# Altium integrated library Analog Devices Switches and Multiplexers Multiplexers (Muxes).IntLib: 481 symbols (part 15 of 23)
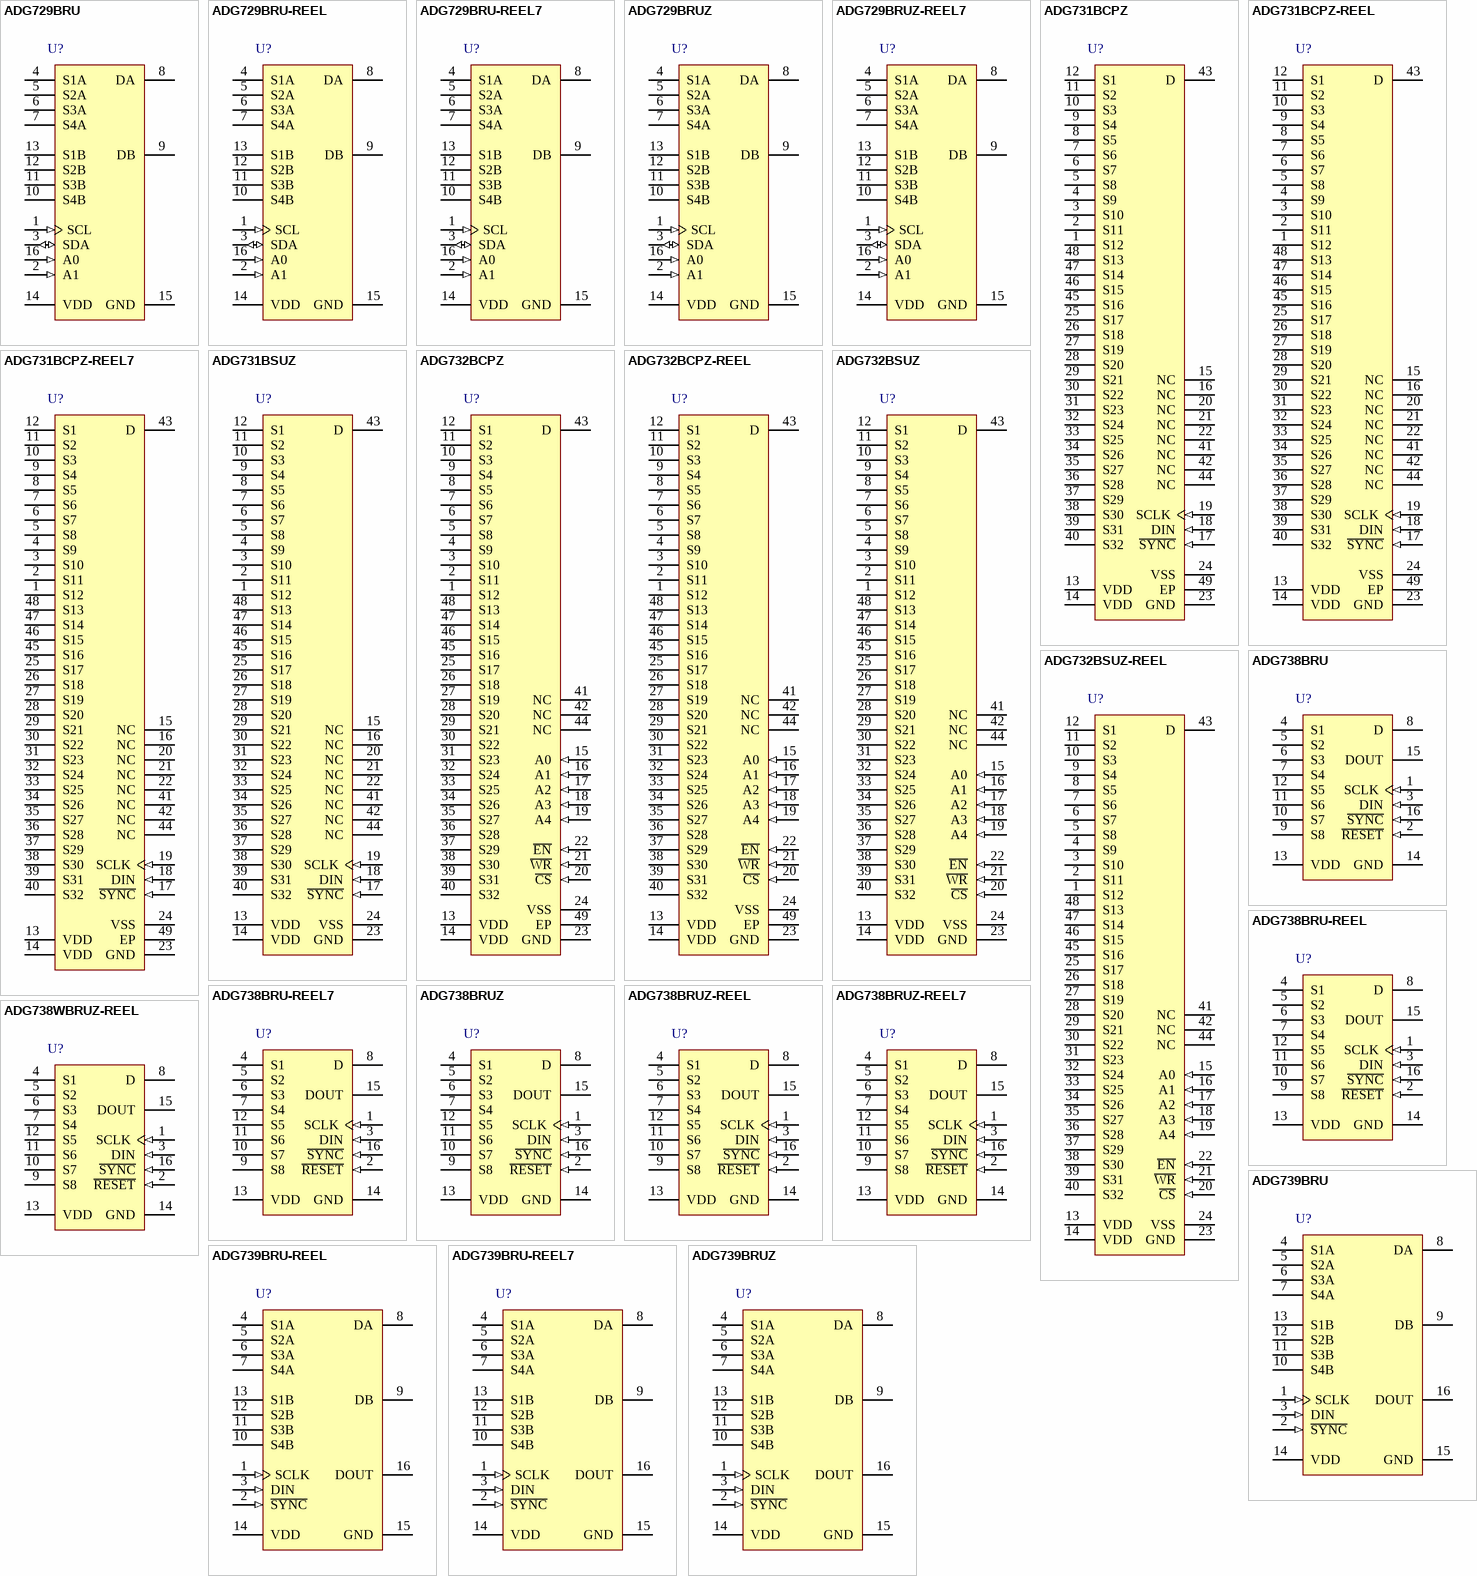
[diagram p31: symbols ADG729BRU to ADG739BRUZ]

## ADG731BCPZ
designator U?
1.8 to 5.5 V / +/-2.5 V, 4 Ohm, Serially Controlled, 32-Channel Analog Multiplexer, -40 to 85 degC, 48-pin QFN (CP-48-1), Tray; Manufacturer: Analog Devices; PartNumber: ADG731BCPZ; Bandwidth (Hz): 18M; Max Analog Signal Range: Vss to Vdd; Ron (ohms): 4; Supply V Guar Performance: Dual_(+/-2.5V), Single_(+3V), Single_(+5V); t transition (s): 42n; DatasheetVersion: Rev. A; PackageReference: CP-48-1; PackageDescription: 48-Pin Lead Frame Chip Scale Package, Body 7 x 7 mm, Pitch 0.5 mm; Supplier 1: Digi-Key; Supplier Part Number 1: ADG731BCPZ-ND; Supplier 2: Newark; Supplier Part Number 2: 59K1562; Supplier 3: Mouser; Supplier Part Number 3: 584-ADG731BCPZ; Packing: Tray; Mounting Technology: Surface Mount; Code_JEDEC: MO-220-VKKD-2; ComponentLink1Description: Manufacturer URL; ComponentLink1URL: http://www.analog.com/en/index.html; ComponentLink2Description: Datasheet; ComponentLink2URL: http://www.analog.com/static/imported-files/data_sheets/ADG725_731.pdf; ComponentLink3Description: Package Specification; ComponentLink3URL: http:/www.analog.com/static/imported-files/packages/PKG_PDF/LFCSP(CP)/CP-48/CP_48_1.pdf
footprint ADI-CP-48-1_N (QFN, 48-Leads, Body 7x7mm, Pitch 0.5mm, IPC Medium Density)
footprint ADI-CP-48-1_L (QFN, 48-Leads, Body 7x7mm, Pitch 0.5mm, IPC High Density)
footprint ADI-CP-48-1_M (QFN, 48-Leads, Body 7x7mm, Pitch 0.5mm, IPC Low Density)
pins: 1 S12 "Source. May be an input or output.", 2 S11 "Source. May be an input or output.", 3 S10 "Source. May be an input or output.", 4 S9 "Source. May be an input or output.", 5 S8 "Source. May be an input or output.", 6 S7 "Source. May be an input or output.", 7 S6 "Source. May be an input or output.", 8 S5 "Source. May be an input or output.", 9 S4 "Source. May be an input or output.", 10 S3 "Source. May be an input or output.", 11 S2 "Source. May be an input or output.", 12 S1 "Source. May be an input or output.", 13 VDD (power) "Power Supply Input. These parts can be operated from a single supply of 1.8 V to 5.5 V and a dual supply of +/-2.5 V.", 14 VDD (power) "Power Supply Input. These parts can be operated from a single supply of 1.8 V to 5.5 V and a dual supply of +/-2.5 V.", 15 NC "NO CONNECT", 16 NC "NO CONNECT", 17 ~{SYNC} (in) "Active Low Control Input. This is the frame synchronization signal for the input data. When S\Y\N\C\ goes low, it powers on the SCLK and DIN buffers and the input Shift Register is enabled. An 8-bit counter is also enabled. (See Datasheet)", 18 DIN (in) "Serial Data Input. Data is clocked into the 8-bit Input Register MSB first on the falling edge of the serial clock input.", 19 SCLK (in) "Serial Clock Input. Data is clocked into the Input Shift Register on the falling edge of the serial clock input. These devices can accommodate serial input rates of up to 30 MHz.", 20 NC "NO CONNECT", 21 NC "NO CONNECT", 22 NC "NO CONNECT", 23 GND (power) "Ground Reference", 24 VSS (power) "Most Negative Power Supply in a Dual-Supply Application. In single-supply applications, connect to GND.", 25 S17 "Source. May be an input or output.", 26 S18 "Source. May be an input or output.", 27 S19 "Source. May be an input or output.", 28 S20 "Source. May be an input or output.", 29 S21 "Source. May be an input or output.", 30 S22 "Source. May be an input or output.", 31 S23 "Source. May be an input or output.", 32 S24 "Source. May be an input or output.", 33 S25 "Source. May be an input or output.", 34 S26 "Source. May be an input or output.", 35 S27 "Source. May be an input or output.", 36 S28 "Source. May be an input or output.", 37 S29 "Source. May be an input or output.", 38 S30 "Source. May be an input or output.", 39 S31 "Source. May be an input or output.", 40 S32 "Source. May be an input or output.", 41 NC "NO CONNECT", 42 NC "NO CONNECT", 43 D "Drain. May be an input or output.", 44 NC "NO CONNECT", 45 S16 "Source. May be an input or output.", 46 S15 "Source. May be an input or output.", 47 S14 "Source. May be an input or output.", 48 S13 "Source. May be an input or output.", 49 EP

## ADG731BCPZ-REEL
designator U?
1.8 to 5.5 V / +/-2.5 V, 4 Ohm, Serially Controlled, 32-Channel Analog Multiplexer, -40 to 85 degC, 48-pin QFN (CP-48-1), Reel; Manufacturer: Analog Devices; PartNumber: ADG731BCPZ-REEL; Bandwidth (Hz): 18M; Max Analog Signal Range: Vss to Vdd; Ron (ohms): 4; Supply V Guar Performance: Dual_(+/-2.5V), Single_(+3V), Single_(+5V); t transition (s): 42n; DatasheetVersion: Rev. A; PackageReference: CP-48-1; PackageDescription: 48-Pin Lead Frame Chip Scale Package, Body 7 x 7 mm, Pitch 0.5 mm; Supplier 1: Digi-Key; Supplier Part Number 1: ADG731BCPZ-REEL-ND; Supplier 2: Mouser; Supplier Part Number 2: 584-ADG731BCPZ-R; Packing: Reel; Mounting Technology: Surface Mount; Code_JEDEC: MO-220-VKKD-2; ComponentLink1Description: Manufacturer URL; ComponentLink1URL: http://www.analog.com/en/index.html; ComponentLink2Description: Datasheet; ComponentLink2URL: http://www.analog.com/static/imported-files/data_sheets/ADG725_731.pdf; ComponentLink3Description: Package Specification; ComponentLink3URL: http:/www.analog.com/static/imported-files/packages/PKG_PDF/LFCSP(CP)/CP-48/CP_48_1.pdf
footprint ADI-CP-48-1_N (QFN, 48-Leads, Body 7x7mm, Pitch 0.5mm, IPC Medium Density)
footprint ADI-CP-48-1_L (QFN, 48-Leads, Body 7x7mm, Pitch 0.5mm, IPC High Density)
footprint ADI-CP-48-1_M (QFN, 48-Leads, Body 7x7mm, Pitch 0.5mm, IPC Low Density)
pins: 1 S12 "Source. May be an input or output.", 2 S11 "Source. May be an input or output.", 3 S10 "Source. May be an input or output.", 4 S9 "Source. May be an input or output.", 5 S8 "Source. May be an input or output.", 6 S7 "Source. May be an input or output.", 7 S6 "Source. May be an input or output.", 8 S5 "Source. May be an input or output.", 9 S4 "Source. May be an input or output.", 10 S3 "Source. May be an input or output.", 11 S2 "Source. May be an input or output.", 12 S1 "Source. May be an input or output.", 13 VDD (power) "Power Supply Input. These parts can be operated from a single supply of 1.8 V to 5.5 V and a dual supply of +/-2.5 V.", 14 VDD (power) "Power Supply Input. These parts can be operated from a single supply of 1.8 V to 5.5 V and a dual supply of +/-2.5 V.", 15 NC "NO CONNECT", 16 NC "NO CONNECT", 17 ~{SYNC} (in) "Active Low Control Input. This is the frame synchronization signal for the input data. When S\Y\N\C\ goes low, it powers on the SCLK and DIN buffers and the input Shift Register is enabled. An 8-bit counter is also enabled. (See Datasheet)", 18 DIN (in) "Serial Data Input. Data is clocked into the 8-bit Input Register MSB first on the falling edge of the serial clock input.", 19 SCLK (in) "Serial Clock Input. Data is clocked into the Input Shift Register on the falling edge of the serial clock input. These devices can accommodate serial input rates of up to 30 MHz.", 20 NC "NO CONNECT", 21 NC "NO CONNECT", 22 NC "NO CONNECT", 23 GND (power) "Ground Reference", 24 VSS (power) "Most Negative Power Supply in a Dual-Supply Application. In single-supply applications, connect to GND.", 25 S17 "Source. May be an input or output.", 26 S18 "Source. May be an input or output.", 27 S19 "Source. May be an input or output.", 28 S20 "Source. May be an input or output.", 29 S21 "Source. May be an input or output.", 30 S22 "Source. May be an input or output.", 31 S23 "Source. May be an input or output.", 32 S24 "Source. May be an input or output.", 33 S25 "Source. May be an input or output.", 34 S26 "Source. May be an input or output.", 35 S27 "Source. May be an input or output.", 36 S28 "Source. May be an input or output.", 37 S29 "Source. May be an input or output.", 38 S30 "Source. May be an input or output.", 39 S31 "Source. May be an input or output.", 40 S32 "Source. May be an input or output.", 41 NC "NO CONNECT", 42 NC "NO CONNECT", 43 D "Drain. May be an input or output.", 44 NC "NO CONNECT", 45 S16 "Source. May be an input or output.", 46 S15 "Source. May be an input or output.", 47 S14 "Source. May be an input or output.", 48 S13 "Source. May be an input or output.", 49 EP

## ADG731BCPZ-REEL7
designator U?
1.8 to 5.5 V / +/-2.5 V, 4 Ohm, Serially Controlled, 32-Channel Analog Multiplexer, -40 to 85 degC, 48-pin QFN (CP-48-1), Reel; Manufacturer: Analog Devices; PartNumber: ADG731BCPZ-REEL7; Bandwidth (Hz): 18M; Max Analog Signal Range: Vss to Vdd; Ron (ohms): 4; Supply V Guar Performance: Dual_(+/-2.5V), Single_(+3V), Single_(+5V); t transition (s): 42n; DatasheetVersion: Rev. A; PackageReference: CP-48-1; PackageDescription: 48-Pin Lead Frame Chip Scale Package, Body 7 x 7 mm, Pitch 0.5 mm; Supplier 1: Digi-Key; Supplier Part Number 1: ADG731BCPZ-REEL7-ND; Supplier 2: Mouser; Supplier Part Number 2: 584-ADG731BCPZ-R7; Packing: Reel; Mounting Technology: Surface Mount; Code_JEDEC: MO-220-VKKD-2; ComponentLink1Description: Manufacturer URL; ComponentLink1URL: http://www.analog.com/en/index.html; ComponentLink2Description: Datasheet; ComponentLink2URL: http://www.analog.com/static/imported-files/data_sheets/ADG725_731.pdf; ComponentLink3Description: Package Specification; ComponentLink3URL: http:/www.analog.com/static/imported-files/packages/PKG_PDF/LFCSP(CP)/CP-48/CP_48_1.pdf
footprint ADI-CP-48-1_N (QFN, 48-Leads, Body 7x7mm, Pitch 0.5mm, IPC Medium Density)
footprint ADI-CP-48-1_L (QFN, 48-Leads, Body 7x7mm, Pitch 0.5mm, IPC High Density)
footprint ADI-CP-48-1_M (QFN, 48-Leads, Body 7x7mm, Pitch 0.5mm, IPC Low Density)
pins: 1 S12 "Source. May be an input or output.", 2 S11 "Source. May be an input or output.", 3 S10 "Source. May be an input or output.", 4 S9 "Source. May be an input or output.", 5 S8 "Source. May be an input or output.", 6 S7 "Source. May be an input or output.", 7 S6 "Source. May be an input or output.", 8 S5 "Source. May be an input or output.", 9 S4 "Source. May be an input or output.", 10 S3 "Source. May be an input or output.", 11 S2 "Source. May be an input or output.", 12 S1 "Source. May be an input or output.", 13 VDD (power) "Power Supply Input. These parts can be operated from a single supply of 1.8 V to 5.5 V and a dual supply of +/-2.5 V.", 14 VDD (power) "Power Supply Input. These parts can be operated from a single supply of 1.8 V to 5.5 V and a dual supply of +/-2.5 V.", 15 NC "NO CONNECT", 16 NC "NO CONNECT", 17 ~{SYNC} (in) "Active Low Control Input. This is the frame synchronization signal for the input data. When S\Y\N\C\ goes low, it powers on the SCLK and DIN buffers and the input Shift Register is enabled. An 8-bit counter is also enabled. (See Datasheet)", 18 DIN (in) "Serial Data Input. Data is clocked into the 8-bit Input Register MSB first on the falling edge of the serial clock input.", 19 SCLK (in) "Serial Clock Input. Data is clocked into the Input Shift Register on the falling edge of the serial clock input. These devices can accommodate serial input rates of up to 30 MHz.", 20 NC "NO CONNECT", 21 NC "NO CONNECT", 22 NC "NO CONNECT", 23 GND (power) "Ground Reference", 24 VSS (power) "Most Negative Power Supply in a Dual-Supply Application. In single-supply applications, connect to GND.", 25 S17 "Source. May be an input or output.", 26 S18 "Source. May be an input or output.", 27 S19 "Source. May be an input or output.", 28 S20 "Source. May be an input or output.", 29 S21 "Source. May be an input or output.", 30 S22 "Source. May be an input or output.", 31 S23 "Source. May be an input or output.", 32 S24 "Source. May be an input or output.", 33 S25 "Source. May be an input or output.", 34 S26 "Source. May be an input or output.", 35 S27 "Source. May be an input or output.", 36 S28 "Source. May be an input or output.", 37 S29 "Source. May be an input or output.", 38 S30 "Source. May be an input or output.", 39 S31 "Source. May be an input or output.", 40 S32 "Source. May be an input or output.", 41 NC "NO CONNECT", 42 NC "NO CONNECT", 43 D "Drain. May be an input or output.", 44 NC "NO CONNECT", 45 S16 "Source. May be an input or output.", 46 S15 "Source. May be an input or output.", 47 S14 "Source. May be an input or output.", 48 S13 "Source. May be an input or output.", 49 EP

## ADG731BSUZ
designator U?
1.8 to 5.5 V / +/-2.5 V, 4 Ohm, Serially Controlled, 32-Channel Analog Multiplexer, -40 to 85 degC, 48-pin QFP (SU-48), Tray; Manufacturer: Analog Devices; PartNumber: ADG731BSUZ; Bandwidth (Hz): 18M; Max Analog Signal Range: Vss to Vdd; Ron (ohms): 4; Supply V Guar Performance: Dual_(+/-2.5V), Single_(+3V), Single_(+5V); t transition (s): 42n; DatasheetVersion: Rev. A; PackageReference: SU-48; PackageDescription: 48-Pin Thin Plastic Quad Flat Package, Body 7 x 7 mm, Pitch 0.5 mm; Supplier 1: Digi-Key; Supplier Part Number 1: ADG731BSUZ-ND; Supplier 2: Farnell; Supplier Part Number 2: 2377069; Supplier 3: Newark; Supplier Part Number 3: 59K1565; Supplier 4: Mouser; Supplier Part Number 4: 584-ADG731BSUZ; Packing: Tray; Mounting Technology: Surface Mount; Code_JEDEC: MS-026ABC; ComponentLink1Description: Manufacturer URL; ComponentLink1URL: http://www.analog.com/en/index.html; ComponentLink2Description: Datasheet; ComponentLink2URL: http://www.analog.com/static/imported-files/data_sheets/ADG725_731.pdf; ComponentLink3Description: Package Specification; ComponentLink3URL: http://www.analog.com/static/imported-files/packages/470644706845302410119987SU48_7x7.pdf
footprint ADI-SU-48_N (QFP, 48-Leads, Body 7x7mm, Pitch 0.5mm, IPC Medium Density)
footprint ADI-SU-48_L (QFP, 48-Leads, Body 7x7mm, Pitch 0.5mm, IPC High Density)
footprint ADI-SU-48_M (QFP, 48-Leads, Body 7x7mm, Pitch 0.5mm, IPC Low Density)
pins: 1 S12 "Source Terminal. May be an input or output.", 2 S11 "Source Terminal. May be an input or output.", 3 S10 "Source Terminal. May be an input or output.", 4 S9 "Source Terminal. May be an input or output.", 5 S8 "Source Terminal. May be an input or output.", 6 S7 "Source Terminal. May be an input or output.", 7 S6 "Source Terminal. May be an input or output.", 8 S5 "Source Terminal. May be an input or output.", 9 S4 "Source Terminal. May be an input or output.", 10 S3 "Source Terminal. May be an input or output.", 11 S2 "Source Terminal. May be an input or output.", 12 S1 "Source Terminal. May be an input or output.", 13 VDD (power) "Power Supply Input. These parts can be operated from a single supply of 1.8 V to 5.5 V and a dual supply of +/-2.5 V.", 14 VDD (power) "Power Supply Input. These parts can be operated from a single supply of 1.8 V to 5.5 V and a dual supply of +/-2.5 V.", 15 NC "No connect", 16 NC "No connect", 17 ~{SYNC} (in) "Active Low Control Input. This is the frame synchronization signal for the input data. When SYNC goes low, it powers on the SCLK and DIN buffers and the input Shift Register is enabled. An 8-bit counter is also enabled. Data (See Datasheet)", 18 DIN (in) "Serial Data Input. Data is clocked into the 8-bit Input Register MSB first on the falling edge of the serial clock input.", 19 SCLK (in) "Serial Clock Input. Data is clocked into the Input Shift Register on the falling edge of the serial clock input. These devices can accommodate serial input rates of up to 30 MHz.", 20 NC "No connect", 21 NC "No connect", 22 NC "No connect", 23 GND (power) "Ground Reference", 24 VSS (power) "Most Negative Power Supply in a Dual-Supply Application. In single-supply applications, connect to GND.", 25 S17 "Source Terminal. May be an input or output.", 26 S18 "Source Terminal. May be an input or output.", 27 S19 "Source Terminal. May be an input or output.", 28 S20 "Source Terminal. May be an input or output.", 29 S21 "Source Terminal. May be an input or output.", 30 S22 "Source Terminal. May be an input or output.", 31 S23 "Source Terminal. May be an input or output.", 32 S24 "Source Terminal. May be an input or output.", 33 S25 "Source Terminal. May be an input or output.", 34 S26 "Source Terminal. May be an input or output.", 35 S27 "Source Terminal. May be an input or output.", 36 S28 "Source Terminal. May be an input or output.", 37 S29 "Source Terminal. May be an input or output.", 38 S30 "Source Terminal. May be an input or output.", 39 S31 "Source Terminal. May be an input or output.", 40 S32 "Source Terminal. May be an input or output.", 41 NC "No connect", 42 NC "No connect", 43 D "Drain Terminal. May be an input or output.", 44 NC "No connect", 45 S16 "Source Terminal. May be an input or output.", 46 S15 "Source Terminal. May be an input or output.", 47 S14 "Source Terminal. May be an input or output.", 48 S13 "Source Terminal. May be an input or output."

## ADG732BCPZ
designator U?
1.8 to 5.5 V / +/-2.5 V, 4 Ohm, 32-Channel Analog Multiplexer, -40 to 85 degC, 48-pin QFN (CP-48-1), Tray; Manufacturer: Analog Devices; PartNumber: ADG732BCPZ; Bandwidth (Hz): 18M; Max Analog Signal Range: Vss to Vdd; Ron (ohms): 4; Supply V Guar Performance: Dual_(+/-2.5V), Single_(+3V), Single_(+5V); t transition (s): 23n; DatasheetVersion: Rev. 0; PackageReference: CP-48-1; PackageDescription: 48-Pin Lead Frame Chip Scale Package, Body 7 x 7 mm, Pitch 0.5 mm; Supplier 1: Digi-Key; Supplier Part Number 1: ADG732BCPZ-ND; Supplier 2: Newark; Supplier Part Number 2: 12M7830; Supplier 3: Mouser; Supplier Part Number 3: 584-ADG732BCPZ; Packing: Tray; Mounting Technology: Surface Mount; Code_JEDEC: MO-220-VKKD-2; ComponentLink1Description: Manufacturer URL; ComponentLink1URL: http://www.analog.com/en/index.html; ComponentLink2Description: Datasheet; ComponentLink2URL: http://www.analog.com/static/imported-files/data_sheets/ADG726_732.pdf; ComponentLink3Description: Package Specification; ComponentLink3URL: http:/www.analog.com/static/imported-files/packages/PKG_PDF/LFCSP(CP)/CP-48/CP_48_1.pdf
footprint ADI-CP-48-1_N (QFN, 48-Leads, Body 7x7mm, Pitch 0.5mm, IPC Medium Density)
footprint ADI-CP-48-1_L (QFN, 48-Leads, Body 7x7mm, Pitch 0.5mm, IPC High Density)
footprint ADI-CP-48-1_M (QFN, 48-Leads, Body 7x7mm, Pitch 0.5mm, IPC Low Density)
pins: 1 S12 "Source Terminal. May be an input or output.", 2 S11 "Source Terminal. May be an input or output.", 3 S10 "Source Terminal. May be an input or output.", 4 S9 "Source Terminal. May be an input or output.", 5 S8 "Source Terminal. May be an input or output.", 6 S7 "Source Terminal. May be an input or output.", 7 S6 "Source Terminal. May be an input or output.", 8 S5 "Source Terminal. May be an input or output.", 9 S4 "Source Terminal. May be an input or output.", 10 S3 "Source Terminal. May be an input or output.", 11 S2 "Source Terminal. May be an input or output.", 12 S1 "Source Terminal. May be an input or output.", 13 VDD (power) "Most Positive Power Supply Potential", 14 VDD (power) "Most Positive Power Supply Potential", 15 A0 (in), 16 A1 (in), 17 A2 (in), 18 A3 (in), 19 A4 (in), 20 ~{CS} (in), 21 ~{WR} (in), 22 ~{EN} (in), 23 GND (power) "Ground.", 24 VSS (power) "Most Negative Power Supply in a Dual-Supply Application. In single-supply applications, connect to GND.", 25 S17 "Source Terminal. May be an input or output.", 26 S18 "Source Terminal. May be an input or output.", 27 S19 "Source Terminal. May be an input or output.", 28 S20 "Source Terminal. May be an input or output.", 29 S21 "Source Terminal. May be an input or output.", 30 S22 "Source Terminal. May be an input or output.", 31 S23 "Source Terminal. May be an input or output.", 32 S24 "Source Terminal. May be an input or output.", 33 S25 "Source Terminal. May be an input or output.", 34 S26 "Source Terminal. May be an input or output.", 35 S27 "Source Terminal. May be an input or output.", 36 S28 "Source Terminal. May be an input or output.", 37 S29 "Source Terminal. May be an input or output.", 38 S30 "Source Terminal. May be an input or output.", 39 S31 "Source Terminal. May be an input or output.", 40 S32 "Source Terminal. May be an input or output.", 41 NC "No connect", 42 NC "No connect", 43 D "Drain Terminal. May be an input or output.", 44 NC "No connect", 45 S16 "Source Terminal. May be an input or output.", 46 S15 "Source Terminal. May be an input or output.", 47 S14 "Source Terminal. May be an input or output.", 48 S13 "Source Terminal. May be an input or output.", 49 EP "Exposed thermal pad."

## ADG732BCPZ-REEL
designator U?
1.8 to 5.5 V / +/-2.5 V, 4 Ohm, 32-Channel Analog Multiplexer, -40 to 85 degC, 48-pin QFN (CP-48-1), Reel; Manufacturer: Analog Devices; PartNumber: ADG732BCPZ-REEL; Bandwidth (Hz): 18M; Max Analog Signal Range: Vss to Vdd; Ron (ohms): 4; Supply V Guar Performance: Dual_(+/-2.5V), Single_(+3V), Single_(+5V); t transition (s): 23n; DatasheetVersion: Rev. 0; PackageReference: CP-48-1; PackageDescription: 48-Pin Lead Frame Chip Scale Package, Body 7 x 7 mm, Pitch 0.5 mm; Supplier 1: Digi-Key; Supplier Part Number 1: ADG732BCPZ-REEL-ND; Supplier 2: Mouser; Supplier Part Number 2: 584-ADG732BCPZ-R; Packing: Reel; Mounting Technology: Surface Mount; Code_JEDEC: MO-220-VKKD-2; ComponentLink1Description: Manufacturer URL; ComponentLink1URL: http://www.analog.com/en/index.html; ComponentLink2Description: Datasheet; ComponentLink2URL: http://www.analog.com/static/imported-files/data_sheets/ADG726_732.pdf; ComponentLink3Description: Package Specification; ComponentLink3URL: http:/www.analog.com/static/imported-files/packages/PKG_PDF/LFCSP(CP)/CP-48/CP_48_1.pdf
footprint ADI-CP-48-1_N (QFN, 48-Leads, Body 7x7mm, Pitch 0.5mm, IPC Medium Density)
footprint ADI-CP-48-1_L (QFN, 48-Leads, Body 7x7mm, Pitch 0.5mm, IPC High Density)
footprint ADI-CP-48-1_M (QFN, 48-Leads, Body 7x7mm, Pitch 0.5mm, IPC Low Density)
pins: 1 S12 "Source Terminal. May be an input or output.", 2 S11 "Source Terminal. May be an input or output.", 3 S10 "Source Terminal. May be an input or output.", 4 S9 "Source Terminal. May be an input or output.", 5 S8 "Source Terminal. May be an input or output.", 6 S7 "Source Terminal. May be an input or output.", 7 S6 "Source Terminal. May be an input or output.", 8 S5 "Source Terminal. May be an input or output.", 9 S4 "Source Terminal. May be an input or output.", 10 S3 "Source Terminal. May be an input or output.", 11 S2 "Source Terminal. May be an input or output.", 12 S1 "Source Terminal. May be an input or output.", 13 VDD (power) "Most Positive Power Supply Potential", 14 VDD (power) "Most Positive Power Supply Potential", 15 A0 (in), 16 A1 (in), 17 A2 (in), 18 A3 (in), 19 A4 (in), 20 ~{CS} (in), 21 ~{WR} (in), 22 ~{EN} (in), 23 GND (power) "Ground.", 24 VSS (power) "Most Negative Power Supply in a Dual-Supply Application. In single-supply applications, connect to GND.", 25 S17 "Source Terminal. May be an input or output.", 26 S18 "Source Terminal. May be an input or output.", 27 S19 "Source Terminal. May be an input or output.", 28 S20 "Source Terminal. May be an input or output.", 29 S21 "Source Terminal. May be an input or output.", 30 S22 "Source Terminal. May be an input or output.", 31 S23 "Source Terminal. May be an input or output.", 32 S24 "Source Terminal. May be an input or output.", 33 S25 "Source Terminal. May be an input or output.", 34 S26 "Source Terminal. May be an input or output.", 35 S27 "Source Terminal. May be an input or output.", 36 S28 "Source Terminal. May be an input or output.", 37 S29 "Source Terminal. May be an input or output.", 38 S30 "Source Terminal. May be an input or output.", 39 S31 "Source Terminal. May be an input or output.", 40 S32 "Source Terminal. May be an input or output.", 41 NC "No connect", 42 NC "No connect", 43 D "Drain Terminal. May be an input or output.", 44 NC "No connect", 45 S16 "Source Terminal. May be an input or output.", 46 S15 "Source Terminal. May be an input or output.", 47 S14 "Source Terminal. May be an input or output.", 48 S13 "Source Terminal. May be an input or output.", 49 EP "Exposed thermal pad."

## ADG732BSUZ
designator U?
1.8 to 5.5 V / +/-2.5 V, 4 Ohm, 32-Channel Analog Multiplexer, -40 to 85 degC, 48-pin QFP (SU-48), Tray; Manufacturer: Analog Devices; PartNumber: ADG732BSUZ; Bandwidth (Hz): 18M; Max Analog Signal Range: Vss to Vdd; Ron (ohms): 4; Supply V Guar Performance: Dual_(+/-2.5V), Single_(+3V), Single_(+5V); t transition (s): 23n; DatasheetVersion: Rev. 0; PackageReference: SU-48; PackageDescription: 48-Pin Thin Plastic Quad Flat Package, Body 7 x 7 mm, Pitch 0.5 mm; Supplier 1: Digi-Key; Supplier Part Number 1: ADG732BSUZ-ND; Supplier 2: Farnell; Supplier Part Number 2: 1438754; Supplier 3: Newark; Supplier Part Number 3: 19M8670; Supplier 4: Mouser; Supplier Part Number 4: 584-ADG732BSUZ; Packing: Tray; Mounting Technology: Surface Mount; Code_JEDEC: MS-026ABC; ComponentLink1Description: Manufacturer URL; ComponentLink1URL: http://www.analog.com/en/index.html; ComponentLink2Description: Datasheet; ComponentLink2URL: http://www.analog.com/static/imported-files/data_sheets/ADG726_732.pdf; ComponentLink3Description: Package Specification; ComponentLink3URL: http://www.analog.com/static/imported-files/packages/470644706845302410119987SU48_7x7.pdf
footprint ADI-SU-48_N (QFP, 48-Leads, Body 7x7mm, Pitch 0.5mm, IPC Medium Density)
footprint ADI-SU-48_L (QFP, 48-Leads, Body 7x7mm, Pitch 0.5mm, IPC High Density)
footprint ADI-SU-48_M (QFP, 48-Leads, Body 7x7mm, Pitch 0.5mm, IPC Low Density)
pins: 1 S12 "Source Terminal. May be an input or output.", 2 S11 "Source Terminal. May be an input or output.", 3 S10 "Source Terminal. May be an input or output.", 4 S9 "Source Terminal. May be an input or output.", 5 S8 "Source Terminal. May be an input or output.", 6 S7 "Source Terminal. May be an input or output.", 7 S6 "Source Terminal. May be an input or output.", 8 S5 "Source Terminal. May be an input or output.", 9 S4 "Source Terminal. May be an input or output.", 10 S3 "Source Terminal. May be an input or output.", 11 S2 "Source Terminal. May be an input or output.", 12 S1 "Source Terminal. May be an input or output.", 13 VDD (power) "Most Positive Power Supply Potential", 14 VDD (power) "Most Positive Power Supply Potential", 15 A0 (in) "Logic Control Input", 16 A1 (in) "Logic Control Input", 17 A2 (in) "Logic Control Input", 18 A3 (in) "Logic Control Input", 19 A4 (in) "Logic Control Input", 20 ~{CS} (in), 21 ~{WR} (in), 22 ~{EN} (in), 23 GND (power) "Ground (0 V) Reference", 24 VSS (power) "Most Negative Power Supply in a Dual-Supply Application. In single-supply applications, connect to GND.", 25 S17 "Source Terminal. May be an input or output.", 26 S18 "Source Terminal. May be an input or output.", 27 S19 "Source Terminal. May be an input or output.", 28 S20 "Source Terminal. May be an input or output.", 29 S21 "Source Terminal. May be an input or output.", 30 S22 "Source Terminal. May be an input or output.", 31 S23 "Source Terminal. May be an input or output.", 32 S24 "Source Terminal. May be an input or output.", 33 S25 "Source Terminal. May be an input or output.", 34 S26 "Source Terminal. May be an input or output.", 35 S27 "Source Terminal. May be an input or output.", 36 S28 "Source Terminal. May be an input or output.", 37 S29 "Source Terminal. May be an input or output.", 38 S30 "Source Terminal. May be an input or output.", 39 S31 "Source Terminal. May be an input or output.", 40 S32 "Source Terminal. May be an input or output.", 41 NC "Not connect", 42 NC "Not connect", 43 D "Drain Terminal. May be an input or output.", 44 NC "Not connect", 45 S16 "Source Terminal. May be an input or output.", 46 S15 "Source Terminal. May be an input or output.", 47 S14 "Source Terminal. May be an input or output.", 48 S13 "Source Terminal. May be an input or output."

## ADG732BSUZ-REEL
designator U?
1.8 to 5.5 V / +/-2.5 V, 4 Ohm, 32-Channel Analog Multiplexer, -40 to 85 degC, 48-pin QFP (SU-48), Reel; Manufacturer: Analog Devices; PartNumber: ADG732BSUZ-REEL; Bandwidth (Hz): 18M; Max Analog Signal Range: Vss to Vdd; Ron (ohms): 4; Supply V Guar Performance: Dual_(+/-2.5V), Single_(+3V), Single_(+5V); t transition (s): 23n; DatasheetVersion: Rev. 0; PackageReference: SU-48; PackageDescription: 48-Pin Thin Plastic Quad Flat Package, Body 7 x 7 mm, Pitch 0.5 mm; Supplier 1: Digi-Key; Supplier Part Number 1: ADG732BSUZ-REEL-ND; Supplier 2: Newark; Supplier Part Number 2: 59K1567; Supplier 3: Mouser; Supplier Part Number 3: 584-ADG732BSUZ-R; Packing: Reel; Mounting Technology: Surface Mount; Code_JEDEC: MS-026ABC; ComponentLink1Description: Manufacturer URL; ComponentLink1URL: http://www.analog.com/en/index.html; ComponentLink2Description: Datasheet; ComponentLink2URL: http://www.analog.com/static/imported-files/data_sheets/ADG726_732.pdf; ComponentLink3Description: Package Specification; ComponentLink3URL: http://www.analog.com/static/imported-files/packages/470644706845302410119987SU48_7x7.pdf
footprint ADI-SU-48_N (QFP, 48-Leads, Body 7x7mm, Pitch 0.5mm, IPC Medium Density)
footprint ADI-SU-48_L (QFP, 48-Leads, Body 7x7mm, Pitch 0.5mm, IPC High Density)
footprint ADI-SU-48_M (QFP, 48-Leads, Body 7x7mm, Pitch 0.5mm, IPC Low Density)
pins: 1 S12 "Source Terminal. May be an input or output.", 2 S11 "Source Terminal. May be an input or output.", 3 S10 "Source Terminal. May be an input or output.", 4 S9 "Source Terminal. May be an input or output.", 5 S8 "Source Terminal. May be an input or output.", 6 S7 "Source Terminal. May be an input or output.", 7 S6 "Source Terminal. May be an input or output.", 8 S5 "Source Terminal. May be an input or output.", 9 S4 "Source Terminal. May be an input or output.", 10 S3 "Source Terminal. May be an input or output.", 11 S2 "Source Terminal. May be an input or output.", 12 S1 "Source Terminal. May be an input or output.", 13 VDD (power) "Most Positive Power Supply Potential", 14 VDD (power) "Most Positive Power Supply Potential", 15 A0 (in) "Logic Control Input", 16 A1 (in) "Logic Control Input", 17 A2 (in) "Logic Control Input", 18 A3 (in) "Logic Control Input", 19 A4 (in) "Logic Control Input", 20 ~{CS} (in), 21 ~{WR} (in), 22 ~{EN} (in), 23 GND (power) "Ground (0 V) Reference", 24 VSS (power) "Most Negative Power Supply in a Dual-Supply Application. In single-supply applications, connect to GND.", 25 S17 "Source Terminal. May be an input or output.", 26 S18 "Source Terminal. May be an input or output.", 27 S19 "Source Terminal. May be an input or output.", 28 S20 "Source Terminal. May be an input or output.", 29 S21 "Source Terminal. May be an input or output.", 30 S22 "Source Terminal. May be an input or output.", 31 S23 "Source Terminal. May be an input or output.", 32 S24 "Source Terminal. May be an input or output.", 33 S25 "Source Terminal. May be an input or output.", 34 S26 "Source Terminal. May be an input or output.", 35 S27 "Source Terminal. May be an input or output.", 36 S28 "Source Terminal. May be an input or output.", 37 S29 "Source Terminal. May be an input or output.", 38 S30 "Source Terminal. May be an input or output.", 39 S31 "Source Terminal. May be an input or output.", 40 S32 "Source Terminal. May be an input or output.", 41 NC "Not connect", 42 NC "Not connect", 43 D "Drain Terminal. May be an input or output.", 44 NC "Not connect", 45 S16 "Source Terminal. May be an input or output.", 46 S15 "Source Terminal. May be an input or output.", 47 S14 "Source Terminal. May be an input or output.", 48 S13 "Source Terminal. May be an input or output."

## ADG738BRU
designator U?
CMOS, Low-Voltage, 3-Wire Serially-Controlled, Matrix Switch, -40 to 85 degC, 16-pin SOP (RU-16), Tube; Manufacturer: Analog Devices; PartNumber: ADG738BRU; Bandwidth (Hz): 65M; Max Analog Signal Range: 0 to Vdd; Ron (ohms): 2.5; Supply V Guar Performance: Single_(+3V), Single_(+5V); DatasheetVersion: Rev. 0; PackageVersion: Nov-02; PackageReference: RU-16; PackageDescription: 16-Pin Thin Shrink Small Outline Package, Body 5 x 4.4 mm, Pitch 0.65 mm; Supplier 1: Digi-Key; Supplier Part Number 1: ADG738BRU-ND; Supplier 2: Mouser; Supplier Part Number 2: 584-ADG738BRU; Packing: Tube; Mounting Technology: Surface Mount; Code_JEDEC: MO-153AB; ComponentLink1Description: Manufacturer URL; ComponentLink1URL: http://www.analog.com/en/index.html; ComponentLink2Description: Datasheet; ComponentLink2URL: http://www.analog.com/static/imported-files/data_sheets/ADG738_739.pdf; ComponentLink3Description: Package Specification; ComponentLink3URL: http:/www.analog.com/static/imported-files/packages/36244347913743854010197452789RU16.pdf
footprint ADI-RU-16_N (SOP, 16-Leads, Body 5x4.4mm, Pitch 0.65mm, IPC Medium Density)
footprint ADI-RU-16_L (SOP, 16-Leads, Body 5x4.4mm, Pitch 0.65mm, IPC High Density)
footprint ADI-RU-16_M (SOP, 16-Leads, Body 5x4.4mm, Pitch 0.65mm, IPC Low Density)
pins: 1 SCLK (in) "Serial Clock Input. Data is clocked into the input shift register on the falling edge of the serial clock input. These devices can accommodate serial input rates of up to 30 MHz.", 2 ~{RESET} (in) "Active low control input that clears the input register and turns all switches to the OFF condition.", 3 DIN (in) "Serial Data Input. Data is clocked into the 8-bit input register on the falling edge of the serial clock input.", 4 S1 "Source. May be an input or output.", 5 S2 "Source. May be an input or output.", 6 S3 "Source. May be an input or output.", 7 S4 "Source. May be an input or output.", 8 D "Drain. May be an input or output.", 9 S8 "Source. May be an input or output.", 10 S7 "Source. May be an input or output.", 11 S6 "Source. May be an input or output.", 12 S5 "Source. May be an input or output.", 13 VDD (power) "Power Supply Input. These parts can be operated from a supply of 2.7 V to 5.5 V.", 14 GND (power) "Ground Reference.", 15 DOUT (oc) "Data Output. This allows a number a parts to be daisy-chained. Data is clocked out of the input shift register on the rising edge of SCLK. This is an open drain output which should be pulled to the supply with an external (See Datasheet)", 16 ~{SYNC} (in) "Active Low Control Input. This is the frame synchronization signal for the input data. When S\Y\N\C\ goes low, it powers on the SCLK and DIN buffers and the input shift register is enabled. Data is transferred on the falling (See Datasheet)"

## ADG738BRU-REEL
designator U?
CMOS, Low-Voltage, 3-Wire Serially-Controlled, Matrix Switch, -40 to 85 degC, 16-pin SOP (RU-16), Reel; Manufacturer: Analog Devices; PartNumber: ADG738BRU-REEL; Bandwidth (Hz): 65M; Max Analog Signal Range: 0 to Vdd; Ron (ohms): 2.5; Supply V Guar Performance: Single_(+3V), Single_(+5V); DatasheetVersion: Rev. 0; PackageVersion: Nov-02; PackageReference: RU-16; PackageDescription: 16-Pin Thin Shrink Small Outline Package, Body 5 x 4.4 mm, Pitch 0.65 mm; Supplier 1: Digi-Key; Supplier Part Number 1: ADG738BRU-REEL-ND; Supplier 2: Newark; Supplier Part Number 2: 02H0899; Packing: Reel; Mounting Technology: Surface Mount; Code_JEDEC: MO-153AB; ComponentLink1Description: Manufacturer URL; ComponentLink1URL: http://www.analog.com/en/index.html; ComponentLink2Description: Datasheet; ComponentLink2URL: http://www.analog.com/static/imported-files/data_sheets/ADG738_739.pdf; ComponentLink3Description: Package Specification; ComponentLink3URL: http:/www.analog.com/static/imported-files/packages/36244347913743854010197452789RU16.pdf
footprint ADI-RU-16_N (SOP, 16-Leads, Body 5x4.4mm, Pitch 0.65mm, IPC Medium Density)
footprint ADI-RU-16_L (SOP, 16-Leads, Body 5x4.4mm, Pitch 0.65mm, IPC High Density)
footprint ADI-RU-16_M (SOP, 16-Leads, Body 5x4.4mm, Pitch 0.65mm, IPC Low Density)
pins: 1 SCLK (in) "Serial Clock Input. Data is clocked into the input shift register on the falling edge of the serial clock input. These devices can accommodate serial input rates of up to 30 MHz.", 2 ~{RESET} (in) "Active low control input that clears the input register and turns all switches to the OFF condition.", 3 DIN (in) "Serial Data Input. Data is clocked into the 8-bit input register on the falling edge of the serial clock input.", 4 S1 "Source. May be an input or output.", 5 S2 "Source. May be an input or output.", 6 S3 "Source. May be an input or output.", 7 S4 "Source. May be an input or output.", 8 D "Drain. May be an input or output.", 9 S8 "Source. May be an input or output.", 10 S7 "Source. May be an input or output.", 11 S6 "Source. May be an input or output.", 12 S5 "Source. May be an input or output.", 13 VDD (power) "Power Supply Input. These parts can be operated from a supply of 2.7 V to 5.5 V.", 14 GND (power) "Ground Reference.", 15 DOUT (oc) "Data Output. This allows a number a parts to be daisy-chained. Data is clocked out of the input shift register on the rising edge of SCLK. This is an open drain output which should be pulled to the supply with an external (See Datasheet)", 16 ~{SYNC} (in) "Active Low Control Input. This is the frame synchronization signal for the input data. When S\Y\N\C\ goes low, it powers on the SCLK and DIN buffers and the input shift register is enabled. Data is transferred on the falling (See Datasheet)"

## ADG738BRU-REEL7
designator U?
CMOS, Low-Voltage, 3-Wire Serially-Controlled, Matrix Switch, -40 to 85 degC, 16-pin SOP (RU-16), Reel; Manufacturer: Analog Devices; PartNumber: ADG738BRU-REEL7; Bandwidth (Hz): 65M; Max Analog Signal Range: 0 to Vdd; Ron (ohms): 2.5; Supply V Guar Performance: Single_(+3V), Single_(+5V); DatasheetVersion: Rev. 0; PackageVersion: Nov-02; PackageReference: RU-16; PackageDescription: 16-Pin Thin Shrink Small Outline Package, Body 5 x 4.4 mm, Pitch 0.65 mm; Packing: Reel; Mounting Technology: Surface Mount; Code_JEDEC: MO-153AB; ComponentLink1Description: Manufacturer URL; ComponentLink1URL: http://www.analog.com/en/index.html; ComponentLink2Description: Datasheet; ComponentLink2URL: http://www.analog.com/static/imported-files/data_sheets/ADG738_739.pdf; ComponentLink3Description: Package Specification; ComponentLink3URL: http:/www.analog.com/static/imported-files/packages/36244347913743854010197452789RU16.pdf
footprint ADI-RU-16_N (SOP, 16-Leads, Body 5x4.4mm, Pitch 0.65mm, IPC Medium Density)
footprint ADI-RU-16_L (SOP, 16-Leads, Body 5x4.4mm, Pitch 0.65mm, IPC High Density)
footprint ADI-RU-16_M (SOP, 16-Leads, Body 5x4.4mm, Pitch 0.65mm, IPC Low Density)
pins: 1 SCLK (in) "Serial Clock Input. Data is clocked into the input shift register on the falling edge of the serial clock input. These devices can accommodate serial input rates of up to 30 MHz.", 2 ~{RESET} (in) "Active low control input that clears the input register and turns all switches to the OFF condition.", 3 DIN (in) "Serial Data Input. Data is clocked into the 8-bit input register on the falling edge of the serial clock input.", 4 S1 "Source. May be an input or output.", 5 S2 "Source. May be an input or output.", 6 S3 "Source. May be an input or output.", 7 S4 "Source. May be an input or output.", 8 D "Drain. May be an input or output.", 9 S8 "Source. May be an input or output.", 10 S7 "Source. May be an input or output.", 11 S6 "Source. May be an input or output.", 12 S5 "Source. May be an input or output.", 13 VDD (power) "Power Supply Input. These parts can be operated from a supply of 2.7 V to 5.5 V.", 14 GND (power) "Ground Reference.", 15 DOUT (oc) "Data Output. This allows a number a parts to be daisy-chained. Data is clocked out of the input shift register on the rising edge of SCLK. This is an open drain output which should be pulled to the supply with an external (See Datasheet)", 16 ~{SYNC} (in) "Active Low Control Input. This is the frame synchronization signal for the input data. When S\Y\N\C\ goes low, it powers on the SCLK and DIN buffers and the input shift register is enabled. Data is transferred on the falling (See Datasheet)"

## ADG738BRUZ
designator U?
CMOS, Low-Voltage, 3-Wire Serially-Controlled, Matrix Switch, -40 to 85 degC, 16-pin SOP (RU-16), Tube; Manufacturer: Analog Devices; PartNumber: ADG738BRUZ; Bandwidth (Hz): 65M; Max Analog Signal Range: 0 to Vdd; Ron (ohms): 2.5; Supply V Guar Performance: Single_(+3V), Single_(+5V); DatasheetVersion: Rev. 0; PackageVersion: Nov-02; PackageReference: RU-16; PackageDescription: 16-Pin Thin Shrink Small Outline Package, Body 5 x 4.4 mm, Pitch 0.65 mm; Supplier 1: Digi-Key; Supplier Part Number 1: ADG738BRUZ-ND; Supplier 2: Farnell; Supplier Part Number 2: 9604391; Supplier 3: Newark; Supplier Part Number 3: 19M8671; Supplier 4: Mouser; Supplier Part Number 4: 584-ADG738BRUZ; Packing: Tube; Mounting Technology: Surface Mount; Code_JEDEC: MO-153AB; ComponentLink1Description: Manufacturer URL; ComponentLink1URL: http://www.analog.com/en/index.html; ComponentLink2Description: Datasheet; ComponentLink2URL: http://www.analog.com/static/imported-files/data_sheets/ADG738_739.pdf; ComponentLink3Description: Package Specification; ComponentLink3URL: http:/www.analog.com/static/imported-files/packages/36244347913743854010197452789RU16.pdf
footprint ADI-RU-16_N (SOP, 16-Leads, Body 5x4.4mm, Pitch 0.65mm, IPC Medium Density)
footprint ADI-RU-16_L (SOP, 16-Leads, Body 5x4.4mm, Pitch 0.65mm, IPC High Density)
footprint ADI-RU-16_M (SOP, 16-Leads, Body 5x4.4mm, Pitch 0.65mm, IPC Low Density)
pins: 1 SCLK (in) "Serial Clock Input. Data is clocked into the input shift register on the falling edge of the serial clock input. These devices can accommodate serial input rates of up to 30 MHz.", 2 ~{RESET} (in) "Active low control input that clears the input register and turns all switches to the OFF condition.", 3 DIN (in) "Serial Data Input. Data is clocked into the 8-bit input register on the falling edge of the serial clock input.", 4 S1 "Source. May be an input or output.", 5 S2 "Source. May be an input or output.", 6 S3 "Source. May be an input or output.", 7 S4 "Source. May be an input or output.", 8 D "Drain. May be an input or output.", 9 S8 "Source. May be an input or output.", 10 S7 "Source. May be an input or output.", 11 S6 "Source. May be an input or output.", 12 S5 "Source. May be an input or output.", 13 VDD (power) "Power Supply Input. These parts can be operated from a supply of 2.7 V to 5.5 V.", 14 GND (power) "Ground Reference.", 15 DOUT (oc) "Data Output. This allows a number a parts to be daisy-chained. Data is clocked out of the input shift register on the rising edge of SCLK. This is an open drain output which should be pulled to the supply with an external (See Datasheet)", 16 ~{SYNC} (in) "Active Low Control Input. This is the frame synchronization signal for the input data. When S\Y\N\C\ goes low, it powers on the SCLK and DIN buffers and the input shift register is enabled. Data is transferred on the falling (See Datasheet)"

## ADG738BRUZ-REEL
designator U?
CMOS, Low-Voltage, 3-Wire Serially-Controlled, Matrix Switch, -40 to 85 degC, 16-pin SOP (RU-16), Reel; Manufacturer: Analog Devices; PartNumber: ADG738BRUZ-REEL; Bandwidth (Hz): 65M; Max Analog Signal Range: 0 to Vdd; Ron (ohms): 2.5; Supply V Guar Performance: Single_(+3V), Single_(+5V); DatasheetVersion: Rev. 0; PackageVersion: Nov-02; PackageReference: RU-16; PackageDescription: 16-Pin Thin Shrink Small Outline Package, Body 5 x 4.4 mm, Pitch 0.65 mm; Supplier 1: Digi-Key; Supplier Part Number 1: ADG738BRUZ-REEL-ND; Supplier 2: Newark; Supplier Part Number 2: 59K1579; Supplier 3: Mouser; Supplier Part Number 3: 584-ADG738BRUZ-R; Packing: Reel; Mounting Technology: Surface Mount; Code_JEDEC: MO-153AB; ComponentLink1Description: Manufacturer URL; ComponentLink1URL: http://www.analog.com/en/index.html; ComponentLink2Description: Datasheet; ComponentLink2URL: http://www.analog.com/static/imported-files/data_sheets/ADG738_739.pdf; ComponentLink3Description: Package Specification; ComponentLink3URL: http:/www.analog.com/static/imported-files/packages/36244347913743854010197452789RU16.pdf
footprint ADI-RU-16_N (SOP, 16-Leads, Body 5x4.4mm, Pitch 0.65mm, IPC Medium Density)
footprint ADI-RU-16_L (SOP, 16-Leads, Body 5x4.4mm, Pitch 0.65mm, IPC High Density)
footprint ADI-RU-16_M (SOP, 16-Leads, Body 5x4.4mm, Pitch 0.65mm, IPC Low Density)
pins: 1 SCLK (in) "Serial Clock Input. Data is clocked into the input shift register on the falling edge of the serial clock input. These devices can accommodate serial input rates of up to 30 MHz.", 2 ~{RESET} (in) "Active low control input that clears the input register and turns all switches to the OFF condition.", 3 DIN (in) "Serial Data Input. Data is clocked into the 8-bit input register on the falling edge of the serial clock input.", 4 S1 "Source. May be an input or output.", 5 S2 "Source. May be an input or output.", 6 S3 "Source. May be an input or output.", 7 S4 "Source. May be an input or output.", 8 D "Drain. May be an input or output.", 9 S8 "Source. May be an input or output.", 10 S7 "Source. May be an input or output.", 11 S6 "Source. May be an input or output.", 12 S5 "Source. May be an input or output.", 13 VDD (power) "Power Supply Input. These parts can be operated from a supply of 2.7 V to 5.5 V.", 14 GND (power) "Ground Reference.", 15 DOUT (oc) "Data Output. This allows a number a parts to be daisy-chained. Data is clocked out of the input shift register on the rising edge of SCLK. This is an open drain output which should be pulled to the supply with an external (See Datasheet)", 16 ~{SYNC} (in) "Active Low Control Input. This is the frame synchronization signal for the input data. When S\Y\N\C\ goes low, it powers on the SCLK and DIN buffers and the input shift register is enabled. Data is transferred on the falling (See Datasheet)"

## ADG738BRUZ-REEL7
designator U?
CMOS, Low-Voltage, 3-Wire Serially-Controlled, Matrix Switch, -40 to 85 degC, 16-pin SOP (RU-16), Reel; Manufacturer: Analog Devices; PartNumber: ADG738BRUZ-REEL7; Bandwidth (Hz): 65M; Max Analog Signal Range: 0 to Vdd; Ron (ohms): 2.5; Supply V Guar Performance: Single_(+3V), Single_(+5V); DatasheetVersion: Rev. 0; PackageVersion: Nov-02; PackageReference: RU-16; PackageDescription: 16-Pin Thin Shrink Small Outline Package, Body 5 x 4.4 mm, Pitch 0.65 mm; Supplier 1: Digi-Key; Supplier Part Number 1: ADG738BRUZ-REEL7-ND; Supplier 2: Newark; Supplier Part Number 2: 59K1580; Supplier 3: Mouser; Supplier Part Number 3: 584-ADG738BRUZ-R7; Packing: Reel; Mounting Technology: Surface Mount; Code_JEDEC: MO-153AB; ComponentLink1Description: Manufacturer URL; ComponentLink1URL: http://www.analog.com/en/index.html; ComponentLink2Description: Datasheet; ComponentLink2URL: http://www.analog.com/static/imported-files/data_sheets/ADG738_739.pdf; ComponentLink3Description: Package Specification; ComponentLink3URL: http:/www.analog.com/static/imported-files/packages/36244347913743854010197452789RU16.pdf
footprint ADI-RU-16_N (SOP, 16-Leads, Body 5x4.4mm, Pitch 0.65mm, IPC Medium Density)
footprint ADI-RU-16_L (SOP, 16-Leads, Body 5x4.4mm, Pitch 0.65mm, IPC High Density)
footprint ADI-RU-16_M (SOP, 16-Leads, Body 5x4.4mm, Pitch 0.65mm, IPC Low Density)
pins: 1 SCLK (in) "Serial Clock Input. Data is clocked into the input shift register on the falling edge of the serial clock input. These devices can accommodate serial input rates of up to 30 MHz.", 2 ~{RESET} (in) "Active low control input that clears the input register and turns all switches to the OFF condition.", 3 DIN (in) "Serial Data Input. Data is clocked into the 8-bit input register on the falling edge of the serial clock input.", 4 S1 "Source. May be an input or output.", 5 S2 "Source. May be an input or output.", 6 S3 "Source. May be an input or output.", 7 S4 "Source. May be an input or output.", 8 D "Drain. May be an input or output.", 9 S8 "Source. May be an input or output.", 10 S7 "Source. May be an input or output.", 11 S6 "Source. May be an input or output.", 12 S5 "Source. May be an input or output.", 13 VDD (power) "Power Supply Input. These parts can be operated from a supply of 2.7 V to 5.5 V.", 14 GND (power) "Ground Reference.", 15 DOUT (oc) "Data Output. This allows a number a parts to be daisy-chained. Data is clocked out of the input shift register on the rising edge of SCLK. This is an open drain output which should be pulled to the supply with an external (See Datasheet)", 16 ~{SYNC} (in) "Active Low Control Input. This is the frame synchronization signal for the input data. When S\Y\N\C\ goes low, it powers on the SCLK and DIN buffers and the input shift register is enabled. Data is transferred on the falling (See Datasheet)"